# Altium schematic symbol library Sheet_1_2021-12-20.SCHLIB: 1 symbol
Pins are listed as number, name and electrical type; pins without a type are passive.

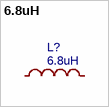
[diagram p0: symbol 6.8uH]

## 6.8uH
designator L?
BOM_Manufacturer: Sunlord; BOM_Manufacturer Part: MWSA0603S-6R8MT; nameAlias: Inductance; Contributor: LCSC; BOM_Supplier: LCSC; BOM_Supplier Part: C408449; BOM_JLCPCB Part Class: Extended Part; spicePre: L; spiceSymbolName: MWSA0603S-6R8MT
footprint IND-SMD_L7.0-W6.6
pins: 1, 2